# Altium schematic symbol library Res1 51k.SCHLIB: 1 symbol
Pins are listed as number, name and electrical type; pins without a type are passive.

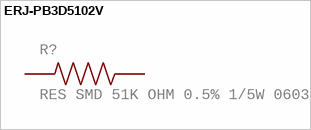
[diagram p0: symbol ERJ-PB3D5102V]

## ERJ-PB3D5102V
designator R?, comment RES SMD 51K OHM 0.5% 1/5W 0603
GateName_1: G$1; SymbolName_1: ERJ-PB3D5102V; Description: Res Thick Film 0603 51K Ohm 5% 0.2W(1/5W) ±50ppm/C Pad SMD Automotive T/R; MF: Panasonic; LibraryName: Res1 51k; DeviceSetName: ERJ-PB3D5102V; Package: RESC1608X55N; MP: ERJ-PB3D5102V; Package: 1608 Panasonic Electronic Components
footprint RESC1608X55N
pins: 1, 2